# Altium schematic symbol library Micro.SchLib: 4 symbols
Pins are listed as number, name and electrical type; pins without a type are passive.

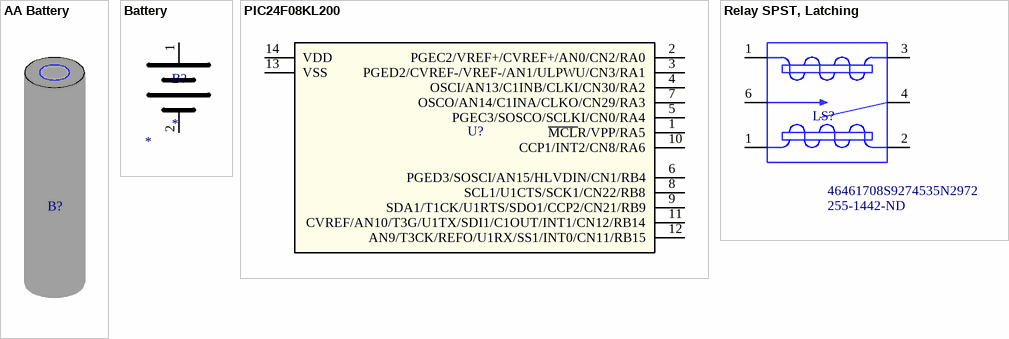
[diagram p0: symbols AA Battery to Relay SPST, Latching]

## AA Battery
designator B?  (value not drawn)
Battery; Manufacturer: *; Manufacturers P/N: *; Value: *; Vendor: *; Vendor P/N: *

## Battery
designator B?  (value not drawn)
Manufacturer: *; Manufacturers P/N: *; Value: *; Vendor: *; Vendor P/N: *; QuickValue: *; Voltage: *
pins: 1 Positive, 2 Negative

## PIC24F08KL200
designator U?
Manufacturers P/N: PIC24F08KL200-I/P; Manufacturer: Microchip; Vendor P/N: PIC24F08KL200-I/P-ND; Vendor: Digi-Key; QuickValue: PIC24F08KL200; Value: PIC24F08KL200
pins: 1 ~{MCL}R/VPP/RA5, 2 PGEC2/VREF+/CVREF+/AN0/CN2/RA0, 3 PGED2/CVREF-/VREF-/AN1/ULPWU/CN3/RA1, 4 OSCI/AN13/C1INB/CLKI/CN30/RA2, 5 PGEC3/SOSCO/SCLKI/CN0/RA4, 6 PGED3/SOSCI/AN15/HLVDIN/CN1/RB4, 7 OSCO/AN14/C1INA/CLKO/CN29/RA3, 8 SCL1/U1CTS/SCK1/CN22/RB8, 9 SDA1/T1CK/U1RTS/SDO1/CCP2/CN21/RB9, 10 CCP1/INT2/CN8/RA6, 11 CVREF/AN10/T3G/U1TX/SDI1/C1OUT/INT1/CN12/RB14, 12 AN9/T3CK/REFO/U1RX/SS1/INT0/CN11/RB15, 13 VSS, 14 VDD

## Relay SPST, Latching
designator LS?  Supplier Part Number 1: 255-1442-ND  Supplier Part Number 2: 46461708S9274535N2972
Manufacturers P/N: ADQ23Q04H; Vendor: Digi-Key; Vendor P/N: 255-1442-ND; Value: =QuickValue; Supplier 1: Digi-Key; Supplier 2: Arrow
pins: 1, 1, 2, 3, 4, 6